# EAGLE library part JS202011SCQN (library modular_robotics)
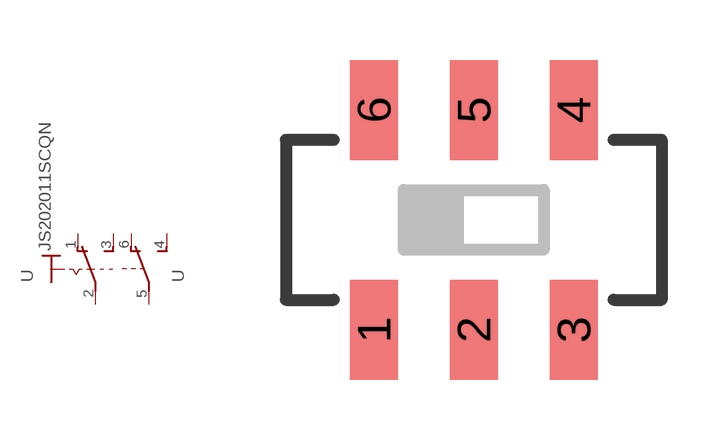
[diagram p0: symbol with the pads of JS202011SCQN; footprint JS202011SCQN]

Designator prefix -; gates G$1=KS-U- G$2=U2

## JS202011SCQN  [JS202011SCQN]
1  G$1:O  pas
2  G$1:P  pas
3  G$1:S  pas
4  G$2:S  pas
5  G$2:P  pas
6  G$2:O  pas

## Footprint JS202011SCQN (pad centres in mm)
smd 1.2 x 2.5: 1 -2.5,-2.75; 2 0,-2.75; 3 2.5,-2.75; 4 2.5,2.75; 5 0,2.75; 6 -2.5,2.75